# Altium footprint library M24128BFMH6TG.PcbLib: 1 footprints
Each footprint in its own frame and in the unit in brackets; x right, y up, seen from the top. Pads: shape width x height; smd on the part's side, far side on the other; paste and mask are expansions set on the pad; w line width, h text height; cw(c..) or ccw(c..) is an arc to the next point about the centre after c.
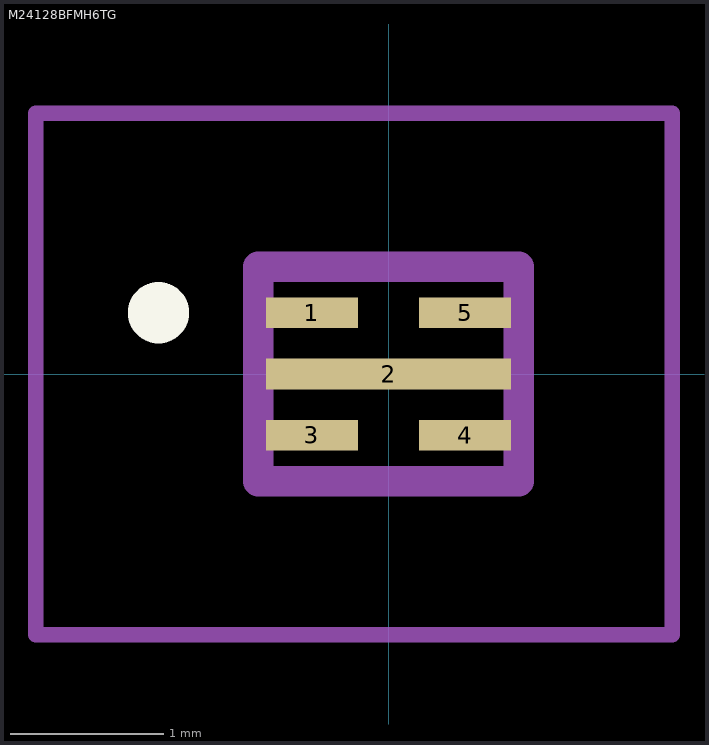
[diagram p0: the footprint, top view; thin cyan lines are the x and y axes]

## M24128BFMH6TG [mm]
pads (5):
  rect 0.6x0.2 smd: 1(-0.5,0.4) 3(-0.5,-0.4) 4(0.5,-0.4) 5(0.5,0.4)
  rect 1.6x0.2 smd: 2(0,0)
Top Overlay:
  lines w0.2: -1.6,0.4 -1.6,0.4 ; -1.6,0.4 ccw(c-1.5,0.4) -1.4,0.4 ; -1.6,0.4 cw(c-1.5,0.4) -1.4,0.4 ; -1.4,0.4 -1.4,0.4
Mechanical 15:
  lines w0.2: -0.85,-0.7 0.85,-0.7 0.85,0.7 -0.85,0.7 -0.85,-0.7
Mechanical 20:
  lines w0.1: -2.3,-1.7 1.85,-1.7 1.85,1.7 -2.3,1.7 -2.3,-1.7